# Altium schematic symbol library PIN_PROPS_TEST.SchLib: 1 symbol
Pins are listed as number, name and electrical type; pins without a type are passive.

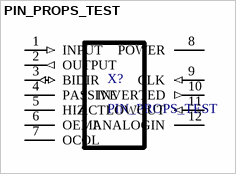
[diagram p0: symbol PIN_PROPS_TEST]

## PIN_PROPS_TEST
designator X?
Test all pin properties
pins: 1 INPUT (in) "Input pin", 2 OUTPUT (out) "Output pin", 3 BIDIR (io) "Bidirectional pin", 4 PASSIVE "Passive pin", 5 HIZ (hiz) "Hi-Z pin", 6 OEMI (oe) "Open emitter", 7 OCOL (oc) "Open collector", 8 POWER (power) "Power pin", 9 CLK (in) "Clock input", 10 INVERTED (out) "Inverted output", 11 ACTLOWOUT (in) "Active low", 12 ANALOGIN "Analog", 13 HIDDEN (power) hidden to GND "Hidden power"